# Altium footprint library SparkFun-Electromechanical.PCBLIB: 151 footprints (part 7 of 11)
Each footprint in its own frame and in the unit in brackets; x right, y up, seen from the top. Pads: shape width x height; smd on the part's side, far side on the other; paste and mask are expansions set on the pad; w line width, h text height; cw(c..) or ccw(c..) is an arc to the next point about the centre after c.
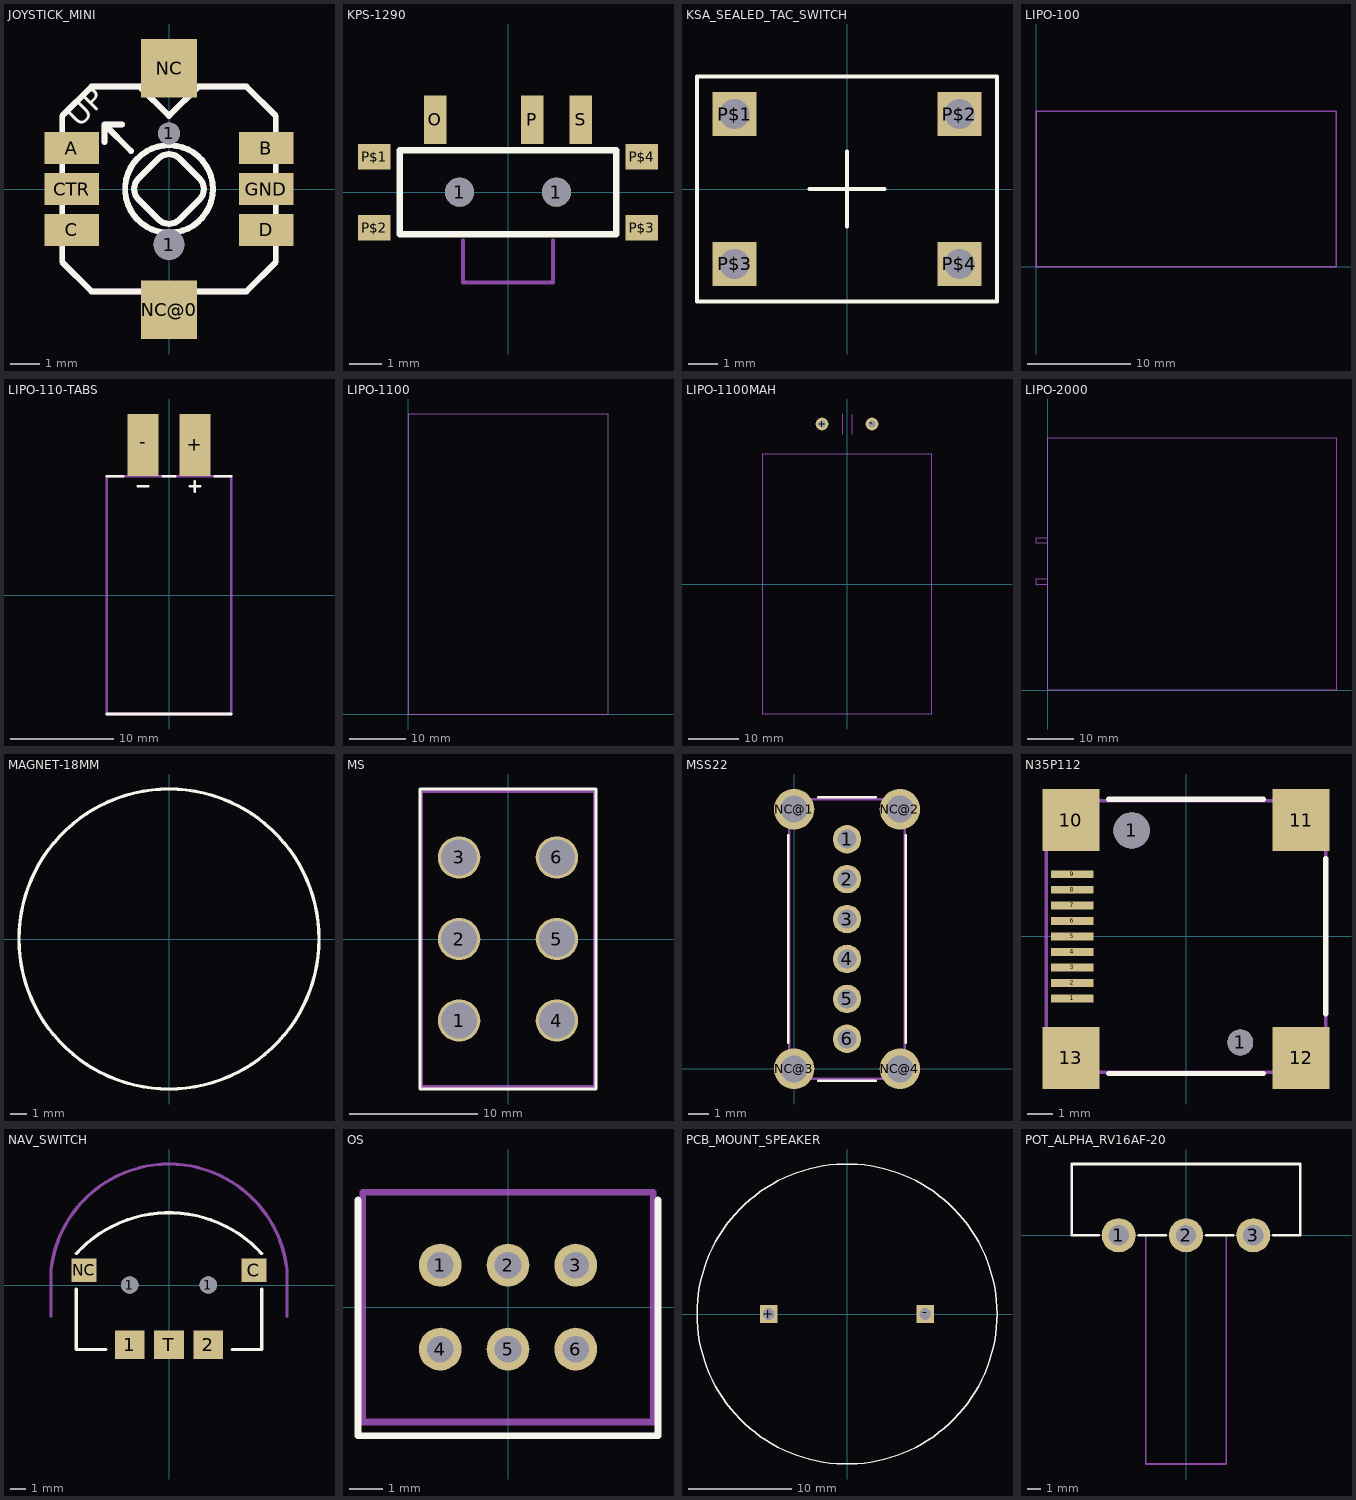
[diagram p6: the footprints below, top view; thin cyan lines are the x and y axes]

## JOYSTICK_MINI [mm]
pads (10):
  round 1.05 hole 1.05: 1(0,-1.9)
  round 0.75 hole 0.75: 1(0,1.9)
  rect 1.85x1.1 smd: A(-3.325,1.4) B(3.325,1.4) C(-3.325,-1.4) CTR(-3.325,0) D(3.325,-1.4) GND(3.325,0)
  rect 1.9x2 smd: NC(0,4.13) NC@0(0,-4.13)
Top Overlay:
  circle w0.203: c0,0 r1.5
  lines w0.203: -2.2,1.6 -2.2,2.2 ; -1.6,2.2 -2.2,2.2 ; -1.3,1.3 -2.2,2.2 ; -1,3.5 -2.65,3.5 -3.65,2.5 -3.65,-2.5 -2.65,-3.5 2.65,-3.5 3.65,-2.5 3.65,2.5 2.65,3.5 1,3.5 ; -1,3.5 0,2.5 1,3.5 ; -1,3.5 1,3.5 ; -1.046,-0.354 -0.354,-1.046 ccw(c0,-0.693) 0.354,-1.046 1.046,-0.354 ccw(c0.693,0) 1.046,0.354 0.354,1.046 ccw(c0,0.693) -0.354,1.046 -1.046,0.354 ccw(c-0.693,0) -1.046,-0.354
  text "UP" at -2.9,1.9 h1.26
Mechanical 16:
  circle w0.203: c0,0 r1.5
  lines w0.203: -2.2,1.6 -2.2,2.2 ; -1.6,2.2 -2.2,2.2 ; -1.3,1.3 -2.2,2.2 ; -1,3.5 -2.65,3.5 -3.65,2.5 -3.65,-2.5 -2.65,-3.5 2.65,-3.5 3.65,-2.5 3.65,2.5 2.65,3.5 1,3.5 ; -1,3.5 0,2.5 1,3.5 ; -1,3.5 1,3.5 ; -1.046,-0.354 -0.354,-1.046 ccw(c0,-0.693) 0.354,-1.046 1.046,-0.354 ccw(c0.693,0) 1.046,0.354 0.354,1.046 ccw(c0,0.693) -0.354,1.046 -1.046,0.354 ccw(c-0.693,0) -1.046,-0.354
  text "UP" at -2.9,1.9 h1.26

## KPS-1290 [mil]
pads (9):
  round 35.43 hole 35.43: 1(-59.06,0) 1(59.06,0)
  rect 27.56x59.06 smd: O(-88.58,88.58) P(29.53,88.58) S(88.58,88.58)
  rect 39.37x31.5 smd: P$1(-163.39,43.31) P$2(-163.39,-43.31) P$3(163.39,-43.31) P$4(163.39,43.31)
Top Overlay:
  lines w8: -131.89,-51.18 -131.89,51.18 131.89,51.18 131.89,-51.18 -131.89,-51.18
Mechanical 16:
  lines w5: -55.12,-59.06 -55.12,-110.24 55.12,-110.24 55.12,-59.06

## KSA_SEALED_TAC_SWITCH [mm]
pads (4):
  rect 1.5x1.5 hole 1: P$1(-3.81,2.54) P$2(3.81,2.54) P$3(-3.81,-2.54) P$4(3.81,-2.54)
Top Overlay:
  lines w0.127: -1.27,0 1.27,0 ; 0,-1.27 0,1.27 ; -5.08,-3.81 5.08,-3.81 5.08,3.81 -5.08,3.81 -5.08,-3.81

## LIPO-100 [mil]
Mechanical 16:
  lines w5: 0,0 0,590.55 1141.73,590.55 1141.73,0 0,0

## LIPO-110-TABS [mm]
pads (2):
  rect 3x6 smd: +(2.5,14.5) -(-2.5,14.5)
Top Overlay:
  lines w0.254: -6,-11.5 6,-11.5 ; -6,11.5 -4.414,11.5 ; -3,10.5 -2,10.5 ; -0.6,11.5 0.586,11.5 ; 2,10.5 3,10.5 ; 2.5,10 2.5,11 ; 4.414,11.5 6,11.5
Mechanical 16:
  rectangle: -3.5,11.5 -1.5,16.5
  rectangle: 1.5,11.5 3.5,16.5
  lines w0.254: -6,-11.5 6,-11.5 6,11.5 -6,11.5 -6,-11.5

## LIPO-1100 [mil]
Mechanical 16:
  lines w8: 0,0 1400,0 1400,2100 0,2100 0,0
  text "LiPo 1100mAh" at 50,50 h77.5

## LIPO-1100MAH [mil]
pads (2):
  round 100 hole 55: +(-196.85,1259.84) -(196.85,1259.84)
Mechanical 16:
  lines w5: -39.37,1181.1 -39.37,1338.58 ; 39.37,1181.1 39.37,1338.58
  lines w8: -669.29,-1023.62 669.29,-1023.62 669.29,1023.62 -669.29,1023.62 -669.29,-1023.62

## LIPO-2000 [mil]
Mechanical 16:
  lines w5: 0,900 0,0 2450,0 2450,2150 0,2150 0,1300 ; 0,900 0,950 ; 0,900 -100,900 -100,950 0,950 ; 0,950 0,1250 ; 0,1250 0,1300 ; 0,1250 -100,1250 -100,1300 0,1300
  text "LiPo 2000mAh" at 50,50 h77.5

## MAGNET-18MM [mil]
Top Overlay:
  circle w8: c0,0 r354.33

## MS [mil]
pads (6):
  round 130 hole 110.24: 1(-150,-250) 2(-150,0) 3(-150,250) 4(150,-250) 5(150,0) 6(150,250)
Top Overlay:
  lines w8: -270,-460 -270,460 270,460 270,-460 -270,-460
Mechanical 16:
  lines w8: -265,-452.5 265,-452.5 265,452.5 -265,452.5 -265,-452.5

## MSS22 [mm]
pads (10):
  round 1.425 hole 0.95: 1(2.65,11.5) 2(2.65,9.5) 3(2.65,7.5) 4(2.65,5.5) 5(2.65,3.5) 6(2.65,1.5)
  round 2.025 hole 1.35: NC@1(0,13) NC@2(5.3,13) NC@3(0,0) NC@4(5.3,0)
Top Overlay:
  lines w0.127: -0.3,1.3 -0.3,11.7 ; 1.2,-0.6 4.1,-0.6 ; 1.2,13.6 4.1,13.6 ; 5.6,1.3 5.6,11.7
Mechanical 16:
  lines w0.127: -0.25,-0.5 5.55,-0.5 5.55,13.5 -0.25,13.5 -0.25,-0.5

## N35P112 [mm]
pads (15):
  rect 1.65x0.3 smd: 1(-4.4,-2.4) 2(-4.4,-1.8) 3(-4.4,-1.2) 4(-4.4,-0.6) 5(-4.4,0) 6(-4.4,0.6) 7(-4.4,1.2) 8(-4.4,1.8) 9(-4.4,2.4)
  round 1.4 hole 1.4: 1(-2.1,4.1)
  round 1 hole 1: 1(2.1,-4.1)
  rect 2.2x2.4 smd: 10(-4.45,4.5) 11(4.45,4.5) 12(4.45,-4.7) 13(-4.45,-4.7)
Top Overlay:
  lines w0.203: -3,-5.3 3,-5.3 ; -3,5.3 3,5.3 ; 5.4,-3 5.4,3
Mechanical 16:
  lines w0.127: -5.4,-5.25 5.4,-5.25 5.4,5.25 -5.4,5.25 -5.4,-5.25

## NAV_SWITCH [mil]
pads (7):
  rect 74.8x70.87 smd: 1(-98.43,-149.61) 2(98.43,-149.61) T(0,-149.61)
  round 43.31 hole 43.31: 1(-98.43,0) 1(98.43,0)
  rect 62.99x59.06 smd: C(212.6,37.4) NC(-212.6,37.4)
Top Overlay:
  lines w8: -232.28,-9.84 -232.28,-161.42 -157.48,-161.42 ; -232.28,78.74 cw(c0,-133.63) 232.28,78.74 ; 157.48,-161.42 232.28,-161.42 232.28,-9.84
Mechanical 16:
  lines w8: -295.28,-78.74 -295.28,39.37 cw(c0,5.99) 295.28,39.37 295.28,-78.74

## OS [mil]
pads (6):
  round 50 hole 31: 1(-79,49) 2(0,49) 3(79,49) 4(-79,-49) 5(0,-49) 6(79,-49)
Top Overlay:
  lines w8: -175,125 -175,-150 175,-150 175,125
Mechanical 16:
  lines w8: -169.5,-134 169.5,-134 169.5,134 -169.5,134 -169.5,-134

## PCB_MOUNT_SPEAKER [mil]
pads (2):
  rect 67.5x67.5 hole 45: +(-300,0) -(300,0)
Top Overlay:
  circle w5: c0,0 r575

## POT_ALPHA_RV16AF-20 [mm]
pads (3):
  round 2.54 hole 1.5: 1(-5,0) 2(0,0) 3(5,0)
Top Overlay:
  lines w0.203: -6.5,0 -8.5,0 -8.5,5.3 8.5,5.3 8.5,0 6.5,0 ; -3.5,0 -1.5,0 ; 1.5,0 3.5,0
Mechanical 16:
  lines w0.127: -3,0 -3,-17 3,-17 3,0